# Altium integrated library TSW-112-07-F-S.IntLib: 1 symbol
Pins are listed as number, name and electrical type; pins without a type are passive.

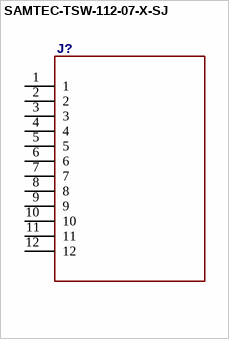
[diagram p0: symbol SAMTEC-TSW-112-07-X-SJ]

## SAMTEC-TSW-112-07-X-SJ
designator J?
footprint SAMTEC-TSW-112-07-X-S
pins: 1, 2, 3, 4, 5, 6, 7, 8, 9, 10, 11, 12